# Altium integrated library TI Interface 8-Bit Line Transceiver.IntLib: 997 symbols (part 1 of 21)
Pins are listed as number, name and electrical type; pins without a type are passive.

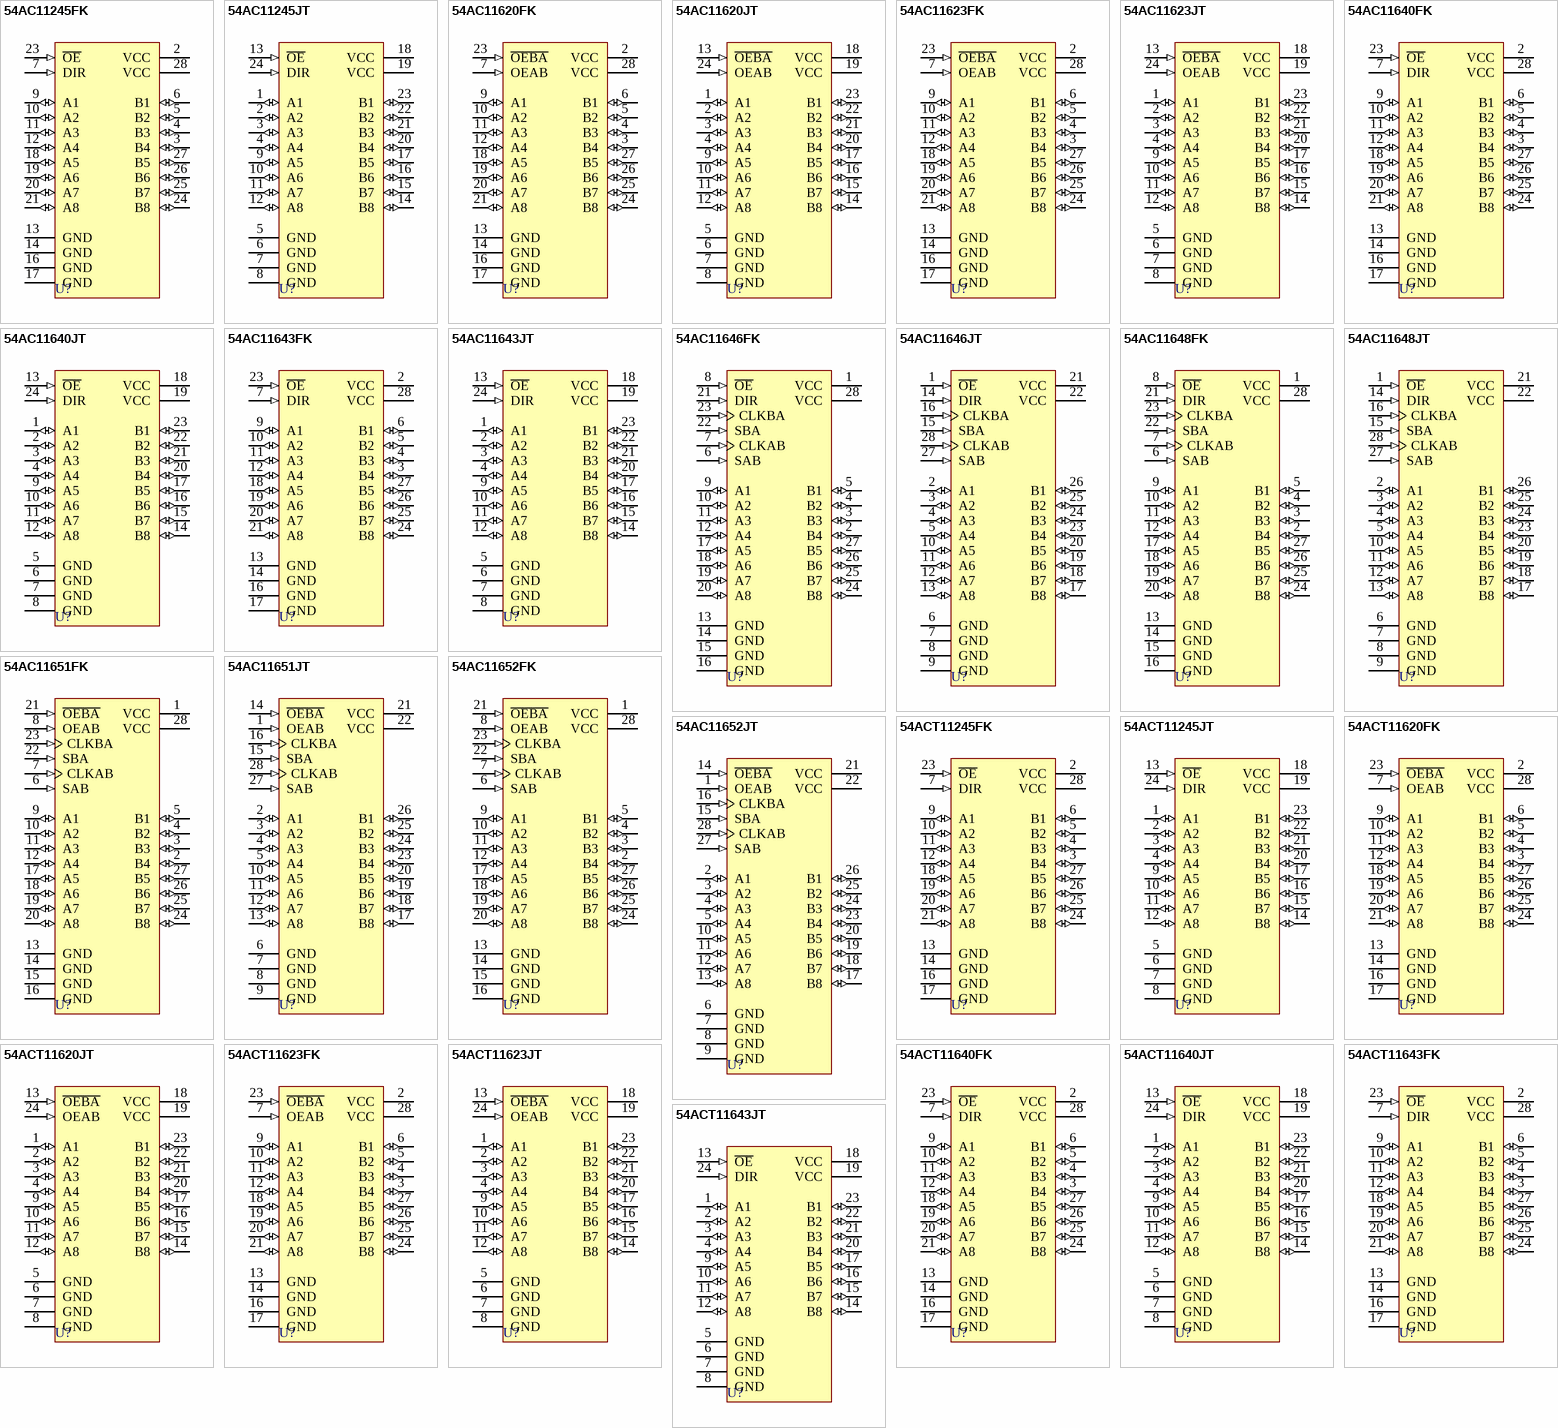
[diagram p0: symbols 54AC11245FK to 54ACT11643JT]

## 54AC11245FK
designator U?
Octal Bus Transceiver with 3-State Outputs; Note: Pins 1, 8, 15 and 22 are not connected; ComponentAvailability: Obsolete; Published: 8-Jun-2000; LatestRevisionDate: 17-Jul-2002; LatestRevisionNote: Re-released for DXP Platform.; DatasheetVersion: Mar-1990; PackageVersion: 1998; PackageReference: FK028D; Publisher: Altium Limited; PackageDescription: Leadless Chip Carrier; 28 Terminals; Body 11.4 x 11.4 mm; ComponentLink1Description: Manufacturer Link; ComponentLink1URL: http://www.ti.com/; ComponentLink2Description: Discontinuation Notice; ComponentLink2URL: http://focus.ti.com/pdfs/mltry/obsolete.pdf
footprint FK028D (Leadless Chip Carrier; 28 Terminals; Body 11.4 x 11.4 mm)
signal-integrity model 54AC11245FK
pins: 2 VCC (power), 3 B4 (io), 4 B3 (io), 5 B2 (io), 6 B1 (io), 7 DIR (in), 9 A1 (io), 10 A2 (io), 11 A3 (io), 12 A4 (io), 13 GND (power), 14 GND (power), 16 GND (power), 17 GND (power), 18 A5 (io), 19 A6 (io), 20 A7 (io), 21 A8 (io), 23 ~{OE} (in), 24 B8 (io), 25 B7 (io), 26 B6 (io), 27 B5 (io), 28 VCC (power)

## 54AC11245JT
designator U?
Octal Bus Transceiver with 3-State Outputs; ComponentAvailability: Obsolete; Published: 8-Jun-2000; LatestRevisionDate: 04-Mar-2005; LatestRevisionNote: Stylized 3D Model Added.; DatasheetVersion: Mar-1990; PackageVersion: Jan-1997; PackageReference: JT024D; Publisher: Altium Limited; PackageDescription: DIP; 24 Leads; Row Spacing 7.62 mm; Pitch 2.54 mm; Code_JEDEC: MS-001-AF; ComponentLink1Description: Manufacturer Link; ComponentLink1URL: http://www.ti.com/; ComponentLink2Description: Discontinuation Notice; ComponentLink2URL: http://focus.ti.com/pdfs/mltry/obsolete.pdf
footprint JT024D (DIP; 24 Leads; Row Spacing 7.62 mm; Pitch 2.54 mm)
3D model JT024 (DIP; 24 Leads; Row Spacing 7.62 mm; Pitch 2.54 mm)
signal-integrity model 54AC11245JT
pins: 1 A1 (io), 2 A2 (io), 3 A3 (io), 4 A4 (io), 5 GND (power), 6 GND (power), 7 GND (power), 8 GND (power), 9 A5 (io), 10 A6 (io), 11 A7 (io), 12 A8 (io), 13 ~{OE} (in), 14 B8 (io), 15 B7 (io), 16 B6 (io), 17 B5 (io), 18 VCC (power), 19 VCC (power), 20 B4 (io), 21 B3 (io), 22 B2 (io), 23 B1 (io), 24 DIR (in)

## 54AC11620FK
designator U?
Octal Bus Transceiver with 3-State Outputs; Note: Pins 1, 8, 15 and 22 are not connected; Published: 8-Jun-2000; LatestRevisionDate: 17-Jul-2002; LatestRevisionNote: Re-released for DXP Platform.; DatasheetVersion: Mar-1990; PackageVersion: 1998; PackageReference: FK028D; Publisher: Altium Limited; PackageDescription: Leadless Chip Carrier; 28 Terminals; Body 11.4 x 11.4 mm; ComponentLink1Description: Manufacturer Link; ComponentLink1URL: http://www.ti.com/
footprint FK028D (Leadless Chip Carrier; 28 Terminals; Body 11.4 x 11.4 mm)
signal-integrity model 54AC11620FK
pins: 2 VCC (power), 3 B4 (io), 4 B3 (io), 5 B2 (io), 6 B1 (io), 7 OEAB (in), 9 A1 (io), 10 A2 (io), 11 A3 (io), 12 A4 (io), 13 GND (power), 14 GND (power), 16 GND (power), 17 GND (power), 18 A5 (io), 19 A6 (io), 20 A7 (io), 21 A8 (io), 23 ~{OEBA} (in), 24 B8 (io), 25 B7 (io), 26 B6 (io), 27 B5 (io), 28 VCC (power)

## 54AC11620JT
designator U?
Octal Bus Transceiver with 3-State Outputs; Published: 8-Jun-2000; LatestRevisionDate: 04-Mar-2005; LatestRevisionNote: Stylized 3D Model Added.; DatasheetVersion: Mar-1990; PackageVersion: Jan-1997; PackageReference: JT024D; Publisher: Altium Limited; PackageDescription: DIP; 24 Leads; Row Spacing 7.62 mm; Pitch 2.54 mm; Code_JEDEC: MS-001-AF; ComponentLink1Description: Manufacturer Link; ComponentLink1URL: http://www.ti.com/
footprint JT024D (DIP; 24 Leads; Row Spacing 7.62 mm; Pitch 2.54 mm)
3D model JT024 (DIP; 24 Leads; Row Spacing 7.62 mm; Pitch 2.54 mm)
signal-integrity model 54AC11620JT
pins: 1 A1 (io), 2 A2 (io), 3 A3 (io), 4 A4 (io), 5 GND (power), 6 GND (power), 7 GND (power), 8 GND (power), 9 A5 (io), 10 A6 (io), 11 A7 (io), 12 A8 (io), 13 ~{OEBA} (in), 14 B8 (io), 15 B7 (io), 16 B6 (io), 17 B5 (io), 18 VCC (power), 19 VCC (power), 20 B4 (io), 21 B3 (io), 22 B2 (io), 23 B1 (io), 24 OEAB (in)

## 54AC11623FK
designator U?
Octal Bus Transceiver with 3-State Outputs; Note: Pins 1, 8, 15 and 22 are not connected; Published: 8-Jun-2000; LatestRevisionDate: 17-Jul-2002; LatestRevisionNote: Re-released for DXP Platform.; DatasheetVersion: Mar-1990; PackageVersion: 1998; PackageReference: FK028D; Publisher: Altium Limited; PackageDescription: Leadless Chip Carrier; 28 Terminals; Body 11.4 x 11.4 mm; ComponentLink1Description: Manufacturer Link; ComponentLink1URL: http://www.ti.com/
footprint FK028D (Leadless Chip Carrier; 28 Terminals; Body 11.4 x 11.4 mm)
signal-integrity model 54AC11623FK
pins: 2 VCC (power), 3 B4 (io), 4 B3 (io), 5 B2 (io), 6 B1 (io), 7 OEAB (in), 9 A1 (io), 10 A2 (io), 11 A3 (io), 12 A4 (io), 13 GND (power), 14 GND (power), 16 GND (power), 17 GND (power), 18 A5 (io), 19 A6 (io), 20 A7 (io), 21 A8 (io), 23 ~{OEBA} (in), 24 B8 (io), 25 B7 (io), 26 B6 (io), 27 B5 (io), 28 VCC (power)

## 54AC11623JT
designator U?
Octal Bus Transceiver with 3-State Outputs; Published: 8-Jun-2000; LatestRevisionDate: 04-Mar-2005; LatestRevisionNote: Stylized 3D Model Added.; DatasheetVersion: Mar-1990; PackageVersion: Jan-1997; PackageReference: JT024D; Publisher: Altium Limited; PackageDescription: DIP; 24 Leads; Row Spacing 7.62 mm; Pitch 2.54 mm; Code_JEDEC: MS-001-AF; ComponentLink1Description: Manufacturer Link; ComponentLink1URL: http://www.ti.com/
footprint JT024D (DIP; 24 Leads; Row Spacing 7.62 mm; Pitch 2.54 mm)
3D model JT024 (DIP; 24 Leads; Row Spacing 7.62 mm; Pitch 2.54 mm)
signal-integrity model 54AC11623JT
pins: 1 A1 (io), 2 A2 (io), 3 A3 (io), 4 A4 (io), 5 GND (power), 6 GND (power), 7 GND (power), 8 GND (power), 9 A5 (io), 10 A6 (io), 11 A7 (io), 12 A8 (io), 13 ~{OEBA} (in), 14 B8 (io), 15 B7 (io), 16 B6 (io), 17 B5 (io), 18 VCC (power), 19 VCC (power), 20 B4 (io), 21 B3 (io), 22 B2 (io), 23 B1 (io), 24 OEAB (in)

## 54AC11640FK
designator U?
Octal Bus Transceiver with 3-State Outputs; Note: Pins 1, 8, 15 and 22 are not connected; Published: 8-Jun-2000; LatestRevisionDate: 17-Jul-2002; LatestRevisionNote: Re-released for DXP Platform.; DatasheetVersion: Mar-1990; PackageVersion: 1998; PackageReference: FK028D; Publisher: Altium Limited; PackageDescription: Leadless Chip Carrier; 28 Terminals; Body 11.4 x 11.4 mm; ComponentLink1Description: Manufacturer Link; ComponentLink1URL: http://www.ti.com/
footprint FK028D (Leadless Chip Carrier; 28 Terminals; Body 11.4 x 11.4 mm)
signal-integrity model 54AC11640FK
pins: 2 VCC (power), 3 B4 (io), 4 B3 (io), 5 B2 (io), 6 B1 (io), 7 DIR (in), 9 A1 (io), 10 A2 (io), 11 A3 (io), 12 A4 (io), 13 GND (power), 14 GND (power), 16 GND (power), 17 GND (power), 18 A5 (io), 19 A6 (io), 20 A7 (io), 21 A8 (io), 23 ~{OE} (in), 24 B8 (io), 25 B7 (io), 26 B6 (io), 27 B5 (io), 28 VCC (power)

## 54AC11640JT
designator U?
Octal Bus Transceiver with 3-State Outputs; Published: 8-Jun-2000; LatestRevisionDate: 04-Mar-2005; LatestRevisionNote: Stylized 3D Model Added.; DatasheetVersion: Mar-1990; PackageVersion: Jan-1997; PackageReference: JT024D; Publisher: Altium Limited; PackageDescription: DIP; 24 Leads; Row Spacing 7.62 mm; Pitch 2.54 mm; Code_JEDEC: MS-001-AF; ComponentLink1Description: Manufacturer Link; ComponentLink1URL: http://www.ti.com/
footprint JT024D (DIP; 24 Leads; Row Spacing 7.62 mm; Pitch 2.54 mm)
3D model JT024 (DIP; 24 Leads; Row Spacing 7.62 mm; Pitch 2.54 mm)
signal-integrity model 54AC11640JT
pins: 1 A1 (io), 2 A2 (io), 3 A3 (io), 4 A4 (io), 5 GND (power), 6 GND (power), 7 GND (power), 8 GND (power), 9 A5 (io), 10 A6 (io), 11 A7 (io), 12 A8 (io), 13 ~{OE} (in), 14 B8 (io), 15 B7 (io), 16 B6 (io), 17 B5 (io), 18 VCC (power), 19 VCC (power), 20 B4 (io), 21 B3 (io), 22 B2 (io), 23 B1 (io), 24 DIR (in)

## 54AC11643FK
designator U?
Octal Bus Transceiver with 3-State Outputs; Note: Pins 1, 8, 15 and 22 are not connected; Published: 8-Jun-2000; LatestRevisionDate: 17-Jul-2002; LatestRevisionNote: Re-released for DXP Platform.; DatasheetVersion: Mar-1990; PackageVersion: 1998; PackageReference: FK028D; Publisher: Altium Limited; PackageDescription: Leadless Chip Carrier; 28 Terminals; Body 11.4 x 11.4 mm; ComponentLink1Description: Manufacturer Link; ComponentLink1URL: http://www.ti.com/
footprint FK028D (Leadless Chip Carrier; 28 Terminals; Body 11.4 x 11.4 mm)
signal-integrity model 54AC11643FK
pins: 2 VCC (power), 3 B4 (io), 4 B3 (io), 5 B2 (io), 6 B1 (io), 7 DIR (in), 9 A1 (io), 10 A2 (io), 11 A3 (io), 12 A4 (io), 13 GND (power), 14 GND (power), 16 GND (power), 17 GND (power), 18 A5 (io), 19 A6 (io), 20 A7 (io), 21 A8 (io), 23 ~{OE} (in), 24 B8 (io), 25 B7 (io), 26 B6 (io), 27 B5 (io), 28 VCC (power)

## 54AC11643JT
designator U?
Octal Bus Transceiver with 3-State Outputs; Published: 8-Jun-2000; LatestRevisionDate: 04-Mar-2005; LatestRevisionNote: Stylized 3D Model Added.; DatasheetVersion: Mar-1990; PackageVersion: Jan-1997; PackageReference: JT024D; Publisher: Altium Limited; PackageDescription: DIP; 24 Leads; Row Spacing 7.62 mm; Pitch 2.54 mm; Code_JEDEC: MS-001-AF; ComponentLink1Description: Manufacturer Link; ComponentLink1URL: http://www.ti.com/
footprint JT024D (DIP; 24 Leads; Row Spacing 7.62 mm; Pitch 2.54 mm)
3D model JT024 (DIP; 24 Leads; Row Spacing 7.62 mm; Pitch 2.54 mm)
signal-integrity model 54AC11643JT
pins: 1 A1 (io), 2 A2 (io), 3 A3 (io), 4 A4 (io), 5 GND (power), 6 GND (power), 7 GND (power), 8 GND (power), 9 A5 (io), 10 A6 (io), 11 A7 (io), 12 A8 (io), 13 ~{OE} (in), 14 B8 (io), 15 B7 (io), 16 B6 (io), 17 B5 (io), 18 VCC (power), 19 VCC (power), 20 B4 (io), 21 B3 (io), 22 B2 (io), 23 B1 (io), 24 DIR (in)

## 54AC11646FK
designator U?
Octal Bus Transceiver and Register with 3-State Outputs; Published: 8-Jun-2000; LatestRevisionDate: 17-Jul-2002; LatestRevisionNote: Re-released for DXP Platform.; DatasheetVersion: Mar-1990; PackageVersion: 1998; PackageReference: FK028D; Publisher: Altium Limited; PackageDescription: Leadless Chip Carrier; 28 Terminals; Body 11.4 x 11.4 mm; ComponentLink1Description: Manufacturer Link; ComponentLink1URL: http://www.ti.com/
footprint FK028D (Leadless Chip Carrier; 28 Terminals; Body 11.4 x 11.4 mm)
signal-integrity model 54AC11646FK
pins: 1 VCC (power), 2 B4 (io), 3 B3 (io), 4 B2 (io), 5 B1 (io), 6 SAB (in), 7 CLKAB (in), 8 ~{OE} (in), 9 A1 (io), 10 A2 (io), 11 A3 (io), 12 A4 (io), 13 GND (power), 14 GND (power), 15 GND (power), 16 GND (power), 17 A5 (io), 18 A6 (io), 19 A7 (io), 20 A8 (io), 21 DIR (in), 22 SBA (in), 23 CLKBA (in), 24 B8 (io), 25 B7 (io), 26 B6 (io), 27 B5 (io), 28 VCC (power)

## 54AC11646JT
designator U?
Octal Bus Transceiver and Register with 3-State Outputs; Published: 8-Jun-2000; LatestRevisionDate: 04-Mar-2005; LatestRevisionNote: Stylized 3D Model Added.; DatasheetVersion: Mar-1990; PackageVersion: Jan-1997; PackageReference: JT028D; Publisher: Altium Limited; PackageDescription: DIP; 28 Leads; Row Spacing 7.62 mm; Pitch 2.54 mm; ComponentLink1Description: Manufacturer Link; ComponentLink1URL: http://www.ti.com/
footprint JT028D (DIP; 28 Leads; Row Spacing 7.62 mm; Pitch 2.54 mm)
3D model JT028 (DIP; 28 Leads; Row Spacing 7.62 mm; Pitch 2.54 mm)
signal-integrity model 54AC11646JT
pins: 1 ~{OE} (in), 2 A1 (io), 3 A2 (io), 4 A3 (io), 5 A4 (io), 6 GND (power), 7 GND (power), 8 GND (power), 9 GND (power), 10 A5 (io), 11 A6 (io), 12 A7 (io), 13 A8 (io), 14 DIR (in), 15 SBA (in), 16 CLKBA (in), 17 B8 (io), 18 B7 (io), 19 B6 (io), 20 B5 (io), 21 VCC (power), 22 VCC (power), 23 B4 (io), 24 B3 (io), 25 B2 (io), 26 B1 (io), 27 SAB (in), 28 CLKAB (in)

## 54AC11648FK
designator U?
Octal Bus Transceiver and Register with 3-State Outputs; Published: 8-Jun-2000; LatestRevisionDate: 17-Jul-2002; LatestRevisionNote: Re-released for DXP Platform.; DatasheetVersion: Mar-1990; PackageVersion: 1998; PackageReference: FK028D; Publisher: Altium Limited; PackageDescription: Leadless Chip Carrier; 28 Terminals; Body 11.4 x 11.4 mm; ComponentLink1Description: Manufacturer Link; ComponentLink1URL: http://www.ti.com/
footprint FK028D (Leadless Chip Carrier; 28 Terminals; Body 11.4 x 11.4 mm)
signal-integrity model 54AC11648FK
pins: 1 VCC (power), 2 B4 (io), 3 B3 (io), 4 B2 (io), 5 B1 (io), 6 SAB (in), 7 CLKAB (in), 8 ~{OE} (in), 9 A1 (io), 10 A2 (io), 11 A3 (io), 12 A4 (io), 13 GND (power), 14 GND (power), 15 GND (power), 16 GND (power), 17 A5 (io), 18 A6 (io), 19 A7 (io), 20 A8 (io), 21 DIR (in), 22 SBA (in), 23 CLKBA (in), 24 B8 (io), 25 B7 (io), 26 B6 (io), 27 B5 (io), 28 VCC (power)

## 54AC11648JT
designator U?
Octal Bus Transceiver and Register with 3-State Outputs; Published: 8-Jun-2000; LatestRevisionDate: 04-Mar-2005; LatestRevisionNote: Stylized 3D Model Added.; DatasheetVersion: Mar-1990; PackageVersion: Jan-1997; PackageReference: JT028D; Publisher: Altium Limited; PackageDescription: DIP; 28 Leads; Row Spacing 7.62 mm; Pitch 2.54 mm; ComponentLink1Description: Manufacturer Link; ComponentLink1URL: http://www.ti.com/
footprint JT028D (DIP; 28 Leads; Row Spacing 7.62 mm; Pitch 2.54 mm)
3D model JT028 (DIP; 28 Leads; Row Spacing 7.62 mm; Pitch 2.54 mm)
signal-integrity model 54AC11648JT
pins: 1 ~{OE} (in), 2 A1 (io), 3 A2 (io), 4 A3 (io), 5 A4 (io), 6 GND (power), 7 GND (power), 8 GND (power), 9 GND (power), 10 A5 (io), 11 A6 (io), 12 A7 (io), 13 A8 (io), 14 DIR (in), 15 SBA (in), 16 CLKBA (in), 17 B8 (io), 18 B7 (io), 19 B6 (io), 20 B5 (io), 21 VCC (power), 22 VCC (power), 23 B4 (io), 24 B3 (io), 25 B2 (io), 26 B1 (io), 27 SAB (in), 28 CLKAB (in)

## 54AC11651FK
designator U?
Octal Bus Transceiver and Register; Published: 8-Jun-2000; LatestRevisionDate: 17-Jul-2002; LatestRevisionNote: Re-released for DXP Platform.; DatasheetVersion: Mar-1990; PackageVersion: 1998; PackageReference: FK028D; Publisher: Altium Limited; PackageDescription: Leadless Chip Carrier; 28 Terminals; Body 11.4 x 11.4 mm; ComponentLink1Description: Manufacturer Link; ComponentLink1URL: http://www.ti.com/
footprint FK028D (Leadless Chip Carrier; 28 Terminals; Body 11.4 x 11.4 mm)
signal-integrity model 54AC11651FK
pins: 1 VCC (power), 2 B4 (io), 3 B3 (io), 4 B2 (io), 5 B1 (io), 6 SAB (in), 7 CLKAB (in), 8 OEAB (in), 9 A1 (io), 10 A2 (io), 11 A3 (io), 12 A4 (io), 13 GND (power), 14 GND (power), 15 GND (power), 16 GND (power), 17 A5 (io), 18 A6 (io), 19 A7 (io), 20 A8 (io), 21 ~{OEBA} (in), 22 SBA (in), 23 CLKBA (in), 24 B8 (io), 25 B7 (io), 26 B6 (io), 27 B5 (io), 28 VCC (power)

## 54AC11651JT
designator U?
Octal Bus Transceiver and Register; Published: 8-Jun-2000; LatestRevisionDate: 04-Mar-2005; LatestRevisionNote: Stylized 3D Model Added.; DatasheetVersion: Mar-1990; PackageVersion: Jan-1997; PackageReference: JT028D; Publisher: Altium Limited; PackageDescription: DIP; 28 Leads; Row Spacing 7.62 mm; Pitch 2.54 mm; ComponentLink1Description: Manufacturer Link; ComponentLink1URL: http://www.ti.com/
footprint JT028D (DIP; 28 Leads; Row Spacing 7.62 mm; Pitch 2.54 mm)
3D model JT028 (DIP; 28 Leads; Row Spacing 7.62 mm; Pitch 2.54 mm)
signal-integrity model 54AC11651JT
pins: 1 OEAB (in), 2 A1 (io), 3 A2 (io), 4 A3 (io), 5 A4 (io), 6 GND (power), 7 GND (power), 8 GND (power), 9 GND (power), 10 A5 (io), 11 A6 (io), 12 A7 (io), 13 A8 (io), 14 ~{OEBA} (in), 15 SBA (in), 16 CLKBA (in), 17 B8 (io), 18 B7 (io), 19 B6 (io), 20 B5 (io), 21 VCC (power), 22 VCC (power), 23 B4 (io), 24 B3 (io), 25 B2 (io), 26 B1 (io), 27 SAB (in), 28 CLKAB (in)

## 54AC11652FK
designator U?
Octal Bus Transceiver and Register with 3-State Outputs; Published: 8-Jun-2000; LatestRevisionDate: 17-Jul-2002; LatestRevisionNote: Re-released for DXP Platform.; DatasheetVersion: Dec-1989; PackageVersion: 1998; PackageReference: FK028D; Publisher: Altium Limited; PackageDescription: Leadless Chip Carrier; 28 Terminals; Body 11.4 x 11.4 mm; ComponentLink1Description: Manufacturer Link; ComponentLink1URL: http://www.ti.com/
footprint FK028D (Leadless Chip Carrier; 28 Terminals; Body 11.4 x 11.4 mm)
signal-integrity model 54AC11652FK
pins: 1 VCC (power), 2 B4 (io), 3 B3 (io), 4 B2 (io), 5 B1 (io), 6 SAB (in), 7 CLKAB (in), 8 OEAB (in), 9 A1 (io), 10 A2 (io), 11 A3 (io), 12 A4 (io), 13 GND (power), 14 GND (power), 15 GND (power), 16 GND (power), 17 A5 (io), 18 A6 (io), 19 A7 (io), 20 A8 (io), 21 ~{OEBA} (in), 22 SBA (in), 23 CLKBA (in), 24 B8 (io), 25 B7 (io), 26 B6 (io), 27 B5 (io), 28 VCC (power)

## 54AC11652JT
designator U?
Octal Bus Transceiver and Register with 3-State Outputs; Published: 8-Jun-2000; LatestRevisionDate: 04-Mar-2005; LatestRevisionNote: Stylized 3D Model Added.; DatasheetVersion: Dec-1989; PackageVersion: Jan-1997; PackageReference: JT028D; Publisher: Altium Limited; PackageDescription: DIP; 28 Leads; Row Spacing 7.62 mm; Pitch 2.54 mm; ComponentLink1Description: Manufacturer Link; ComponentLink1URL: http://www.ti.com/
footprint JT028D (DIP; 28 Leads; Row Spacing 7.62 mm; Pitch 2.54 mm)
3D model JT028 (DIP; 28 Leads; Row Spacing 7.62 mm; Pitch 2.54 mm)
signal-integrity model 54AC11652JT
pins: 1 OEAB (in), 2 A1 (io), 3 A2 (io), 4 A3 (io), 5 A4 (io), 6 GND (power), 7 GND (power), 8 GND (power), 9 GND (power), 10 A5 (io), 11 A6 (io), 12 A7 (io), 13 A8 (io), 14 ~{OEBA} (in), 15 SBA (in), 16 CLKBA (in), 17 B8 (io), 18 B7 (io), 19 B6 (io), 20 B5 (io), 21 VCC (power), 22 VCC (power), 23 B4 (io), 24 B3 (io), 25 B2 (io), 26 B1 (io), 27 SAB (in), 28 CLKAB (in)

## 54ACT11245FK
designator U?
Octal Bus Transceiver with 3-State Outputs; Note: Pins 1, 8, 15 and 22 are not connected; ComponentAvailability: Obsolete; Published: 8-Jun-2000; LatestRevisionDate: 17-Jul-2002; LatestRevisionNote: Re-released for DXP Platform.; DatasheetVersion: Mar-1990; PackageVersion: 1998; PackageReference: FK028D; Publisher: Altium Limited; PackageDescription: Leadless Chip Carrier; 28 Terminals; Body 11.4 x 11.4 mm; ComponentLink1Description: Manufacturer Link; ComponentLink1URL: http://www.ti.com/; ComponentLink2Description: Discontinuation Notice; ComponentLink2URL: http://focus.ti.com/pdfs/mltry/obsolete.pdf
footprint FK028D (Leadless Chip Carrier; 28 Terminals; Body 11.4 x 11.4 mm)
signal-integrity model 54ACT11245FK
pins: 2 VCC (power), 3 B4 (io), 4 B3 (io), 5 B2 (io), 6 B1 (io), 7 DIR (in), 9 A1 (io), 10 A2 (io), 11 A3 (io), 12 A4 (io), 13 GND (power), 14 GND (power), 16 GND (power), 17 GND (power), 18 A5 (io), 19 A6 (io), 20 A7 (io), 21 A8 (io), 23 ~{OE} (in), 24 B8 (io), 25 B7 (io), 26 B6 (io), 27 B5 (io), 28 VCC (power)

## 54ACT11245JT
designator U?
Octal Bus Transceiver with 3-State Outputs; ComponentAvailability: Obsolete; Published: 8-Jun-2000; LatestRevisionDate: 04-Mar-2005; LatestRevisionNote: Stylized 3D Model Added.; DatasheetVersion: Mar-1990; PackageVersion: Jan-1997; PackageReference: JT024D; Publisher: Altium Limited; PackageDescription: DIP; 24 Leads; Row Spacing 7.62 mm; Pitch 2.54 mm; Code_JEDEC: MS-001-AF; ComponentLink1Description: Manufacturer Link; ComponentLink1URL: http://www.ti.com/; ComponentLink2Description: Discontinuation Notice; ComponentLink2URL: http://focus.ti.com/pdfs/mltry/obsolete.pdf
footprint JT024D (DIP; 24 Leads; Row Spacing 7.62 mm; Pitch 2.54 mm)
3D model JT024 (DIP; 24 Leads; Row Spacing 7.62 mm; Pitch 2.54 mm)
signal-integrity model 54ACT11245JT
pins: 1 A1 (io), 2 A2 (io), 3 A3 (io), 4 A4 (io), 5 GND (power), 6 GND (power), 7 GND (power), 8 GND (power), 9 A5 (io), 10 A6 (io), 11 A7 (io), 12 A8 (io), 13 ~{OE} (in), 14 B8 (io), 15 B7 (io), 16 B6 (io), 17 B5 (io), 18 VCC (power), 19 VCC (power), 20 B4 (io), 21 B3 (io), 22 B2 (io), 23 B1 (io), 24 DIR (in)

## 54ACT11620FK
designator U?
Octal Bus Transceiver with 3-State Outputs; Note: Pins 1, 8, 15 and 22 are not connected; Published: 8-Jun-2000; LatestRevisionDate: 17-Jul-2002; LatestRevisionNote: Re-released for DXP Platform.; DatasheetVersion: Mar-1990; PackageVersion: 1998; PackageReference: FK028D; Publisher: Altium Limited; PackageDescription: Leadless Chip Carrier; 28 Terminals; Body 11.4 x 11.4 mm; ComponentLink1Description: Manufacturer Link; ComponentLink1URL: http://www.ti.com/
footprint FK028D (Leadless Chip Carrier; 28 Terminals; Body 11.4 x 11.4 mm)
signal-integrity model 54ACT11620FK
pins: 2 VCC (power), 3 B4 (io), 4 B3 (io), 5 B2 (io), 6 B1 (io), 7 OEAB (in), 9 A1 (io), 10 A2 (io), 11 A3 (io), 12 A4 (io), 13 GND (power), 14 GND (power), 16 GND (power), 17 GND (power), 18 A5 (io), 19 A6 (io), 20 A7 (io), 21 A8 (io), 23 ~{OEBA} (in), 24 B8 (io), 25 B7 (io), 26 B6 (io), 27 B5 (io), 28 VCC (power)

## 54ACT11620JT
designator U?
Octal Bus Transceiver with 3-State Outputs; Published: 8-Jun-2000; LatestRevisionDate: 04-Mar-2005; LatestRevisionNote: Stylized 3D Model Added.; DatasheetVersion: Mar-1990; PackageVersion: Jan-1997; PackageReference: JT024D; Publisher: Altium Limited; PackageDescription: DIP; 24 Leads; Row Spacing 7.62 mm; Pitch 2.54 mm; Code_JEDEC: MS-001-AF; ComponentLink1Description: Manufacturer Link; ComponentLink1URL: http://www.ti.com/
footprint JT024D (DIP; 24 Leads; Row Spacing 7.62 mm; Pitch 2.54 mm)
3D model JT024 (DIP; 24 Leads; Row Spacing 7.62 mm; Pitch 2.54 mm)
signal-integrity model 54ACT11620JT
pins: 1 A1 (io), 2 A2 (io), 3 A3 (io), 4 A4 (io), 5 GND (power), 6 GND (power), 7 GND (power), 8 GND (power), 9 A5 (io), 10 A6 (io), 11 A7 (io), 12 A8 (io), 13 ~{OEBA} (in), 14 B8 (io), 15 B7 (io), 16 B6 (io), 17 B5 (io), 18 VCC (power), 19 VCC (power), 20 B4 (io), 21 B3 (io), 22 B2 (io), 23 B1 (io), 24 OEAB (in)

## 54ACT11623FK
designator U?
Octal Bus Transceiver with 3-State Outputs; Note: Pins 1, 8, 15 and 22 are not connected; Published: 8-Jun-2000; LatestRevisionDate: 17-Jul-2002; LatestRevisionNote: Re-released for DXP Platform.; DatasheetVersion: Mar-1990; PackageVersion: 1998; PackageReference: FK028D; Publisher: Altium Limited; PackageDescription: Leadless Chip Carrier; 28 Terminals; Body 11.4 x 11.4 mm; ComponentLink1Description: Manufacturer Link; ComponentLink1URL: http://www.ti.com/
footprint FK028D (Leadless Chip Carrier; 28 Terminals; Body 11.4 x 11.4 mm)
signal-integrity model 54ACT11623FK
pins: 2 VCC (power), 3 B4 (io), 4 B3 (io), 5 B2 (io), 6 B1 (io), 7 OEAB (in), 9 A1 (io), 10 A2 (io), 11 A3 (io), 12 A4 (io), 13 GND (power), 14 GND (power), 16 GND (power), 17 GND (power), 18 A5 (io), 19 A6 (io), 20 A7 (io), 21 A8 (io), 23 ~{OEBA} (in), 24 B8 (io), 25 B7 (io), 26 B6 (io), 27 B5 (io), 28 VCC (power)

## 54ACT11623JT
designator U?
Octal Bus Transceiver with 3-State Outputs; Published: 8-Jun-2000; LatestRevisionDate: 04-Mar-2005; LatestRevisionNote: Stylized 3D Model Added.; DatasheetVersion: Mar-1990; PackageVersion: Jan-1997; PackageReference: JT024D; Publisher: Altium Limited; PackageDescription: DIP; 24 Leads; Row Spacing 7.62 mm; Pitch 2.54 mm; Code_JEDEC: MS-001-AF; ComponentLink1Description: Manufacturer Link; ComponentLink1URL: http://www.ti.com/
footprint JT024D (DIP; 24 Leads; Row Spacing 7.62 mm; Pitch 2.54 mm)
3D model JT024 (DIP; 24 Leads; Row Spacing 7.62 mm; Pitch 2.54 mm)
signal-integrity model 54ACT11623JT
pins: 1 A1 (io), 2 A2 (io), 3 A3 (io), 4 A4 (io), 5 GND (power), 6 GND (power), 7 GND (power), 8 GND (power), 9 A5 (io), 10 A6 (io), 11 A7 (io), 12 A8 (io), 13 ~{OEBA} (in), 14 B8 (io), 15 B7 (io), 16 B6 (io), 17 B5 (io), 18 VCC (power), 19 VCC (power), 20 B4 (io), 21 B3 (io), 22 B2 (io), 23 B1 (io), 24 OEAB (in)

## 54ACT11640FK
designator U?
Octal Bus Transceiver with 3-State Outputs; Note: Pins 1, 8, 15 and 22 are not connected; Published: 8-Jun-2000; LatestRevisionDate: 17-Jul-2002; LatestRevisionNote: Re-released for DXP Platform.; DatasheetVersion: Apr-1993; PackageVersion: 1998; PackageReference: FK028; Publisher: Altium Limited; PackageDescription: Leadless Chip Carrier; 28 Terminals; Body 11.4 x 11.4 mm; ComponentLink1Description: Manufacturer Link; ComponentLink1URL: http://www.ti.com/; ComponentLink2Description: Datasheet; ComponentLink2URL: http://www-s.ti.com/sc/ds/74act11640.pdf
footprint FK028 (Leadless Chip Carrier; 28 Terminals; Body 11.4 x 11.4 mm)
signal-integrity model 54ACT11640FK
pins: 2 VCC (power), 3 B4 (io), 4 B3 (io), 5 B2 (io), 6 B1 (io), 7 DIR (in), 9 A1 (io), 10 A2 (io), 11 A3 (io), 12 A4 (io), 13 GND (power), 14 GND (power), 16 GND (power), 17 GND (power), 18 A5 (io), 19 A6 (io), 20 A7 (io), 21 A8 (io), 23 ~{OE} (in), 24 B8 (io), 25 B7 (io), 26 B6 (io), 27 B5 (io), 28 VCC (power)

## 54ACT11640JT
designator U?
Octal Bus Transceiver with 3-State Outputs; Published: 8-Jun-2000; LatestRevisionDate: 04-Mar-2005; LatestRevisionNote: Stylized 3D Model Added.; DatasheetVersion: Apr-1993; PackageVersion: Jan-1997; PackageReference: JT024; Publisher: Altium Limited; PackageDescription: DIP; 24 Leads; Row Spacing 7.62 mm; Pitch 2.54 mm; Code_JEDEC: MS-001-AF; ComponentLink1Description: Manufacturer Link; ComponentLink1URL: http://www.ti.com/; ComponentLink2Description: Datasheet; ComponentLink2URL: http://www-s.ti.com/sc/ds/74act11640.pdf
footprint JT024 (DIP; 24 Leads; Row Spacing 7.62 mm; Pitch 2.54 mm)
3D model JT024 (DIP; 24 Leads; Row Spacing 7.62 mm; Pitch 2.54 mm)
signal-integrity model 54ACT11640JT
pins: 1 A1 (io), 2 A2 (io), 3 A3 (io), 4 A4 (io), 5 GND (power), 6 GND (power), 7 GND (power), 8 GND (power), 9 A5 (io), 10 A6 (io), 11 A7 (io), 12 A8 (io), 13 ~{OE} (in), 14 B8 (io), 15 B7 (io), 16 B6 (io), 17 B5 (io), 18 VCC (power), 19 VCC (power), 20 B4 (io), 21 B3 (io), 22 B2 (io), 23 B1 (io), 24 DIR (in)

## 54ACT11643FK
designator U?
Octal Bus Transceiver with 3-State Outputs; Note: Pins 1, 8, 15 and 22 are not connected; Published: 8-Jun-2000; LatestRevisionDate: 17-Jul-2002; LatestRevisionNote: Re-released for DXP Platform.; DatasheetVersion: Mar-1990; PackageVersion: 1998; PackageReference: FK028D; Publisher: Altium Limited; PackageDescription: Leadless Chip Carrier; 28 Terminals; Body 11.4 x 11.4 mm; ComponentLink1Description: Manufacturer Link; ComponentLink1URL: http://www.ti.com/
footprint FK028D (Leadless Chip Carrier; 28 Terminals; Body 11.4 x 11.4 mm)
signal-integrity model 54ACT11643FK
pins: 2 VCC (power), 3 B4 (io), 4 B3 (io), 5 B2 (io), 6 B1 (io), 7 DIR (in), 9 A1 (io), 10 A2 (io), 11 A3 (io), 12 A4 (io), 13 GND (power), 14 GND (power), 16 GND (power), 17 GND (power), 18 A5 (io), 19 A6 (io), 20 A7 (io), 21 A8 (io), 23 ~{OE} (in), 24 B8 (io), 25 B7 (io), 26 B6 (io), 27 B5 (io), 28 VCC (power)

## 54ACT11643JT
designator U?
Octal Bus Transceiver with 3-State Outputs; Published: 8-Jun-2000; LatestRevisionDate: 04-Mar-2005; LatestRevisionNote: Stylized 3D Model Added.; DatasheetVersion: Mar-1990; PackageVersion: Jan-1997; PackageReference: JT024D; Publisher: Altium Limited; PackageDescription: DIP; 24 Leads; Row Spacing 7.62 mm; Pitch 2.54 mm; Code_JEDEC: MS-001-AF; ComponentLink1Description: Manufacturer Link; ComponentLink1URL: http://www.ti.com/
footprint JT024D (DIP; 24 Leads; Row Spacing 7.62 mm; Pitch 2.54 mm)
3D model JT024 (DIP; 24 Leads; Row Spacing 7.62 mm; Pitch 2.54 mm)
signal-integrity model 54ACT11643JT
pins: 1 A1 (io), 2 A2 (io), 3 A3 (io), 4 A4 (io), 5 GND (power), 6 GND (power), 7 GND (power), 8 GND (power), 9 A5 (io), 10 A6 (io), 11 A7 (io), 12 A8 (io), 13 ~{OE} (in), 14 B8 (io), 15 B7 (io), 16 B6 (io), 17 B5 (io), 18 VCC (power), 19 VCC (power), 20 B4 (io), 21 B3 (io), 22 B2 (io), 23 B1 (io), 24 DIR (in)

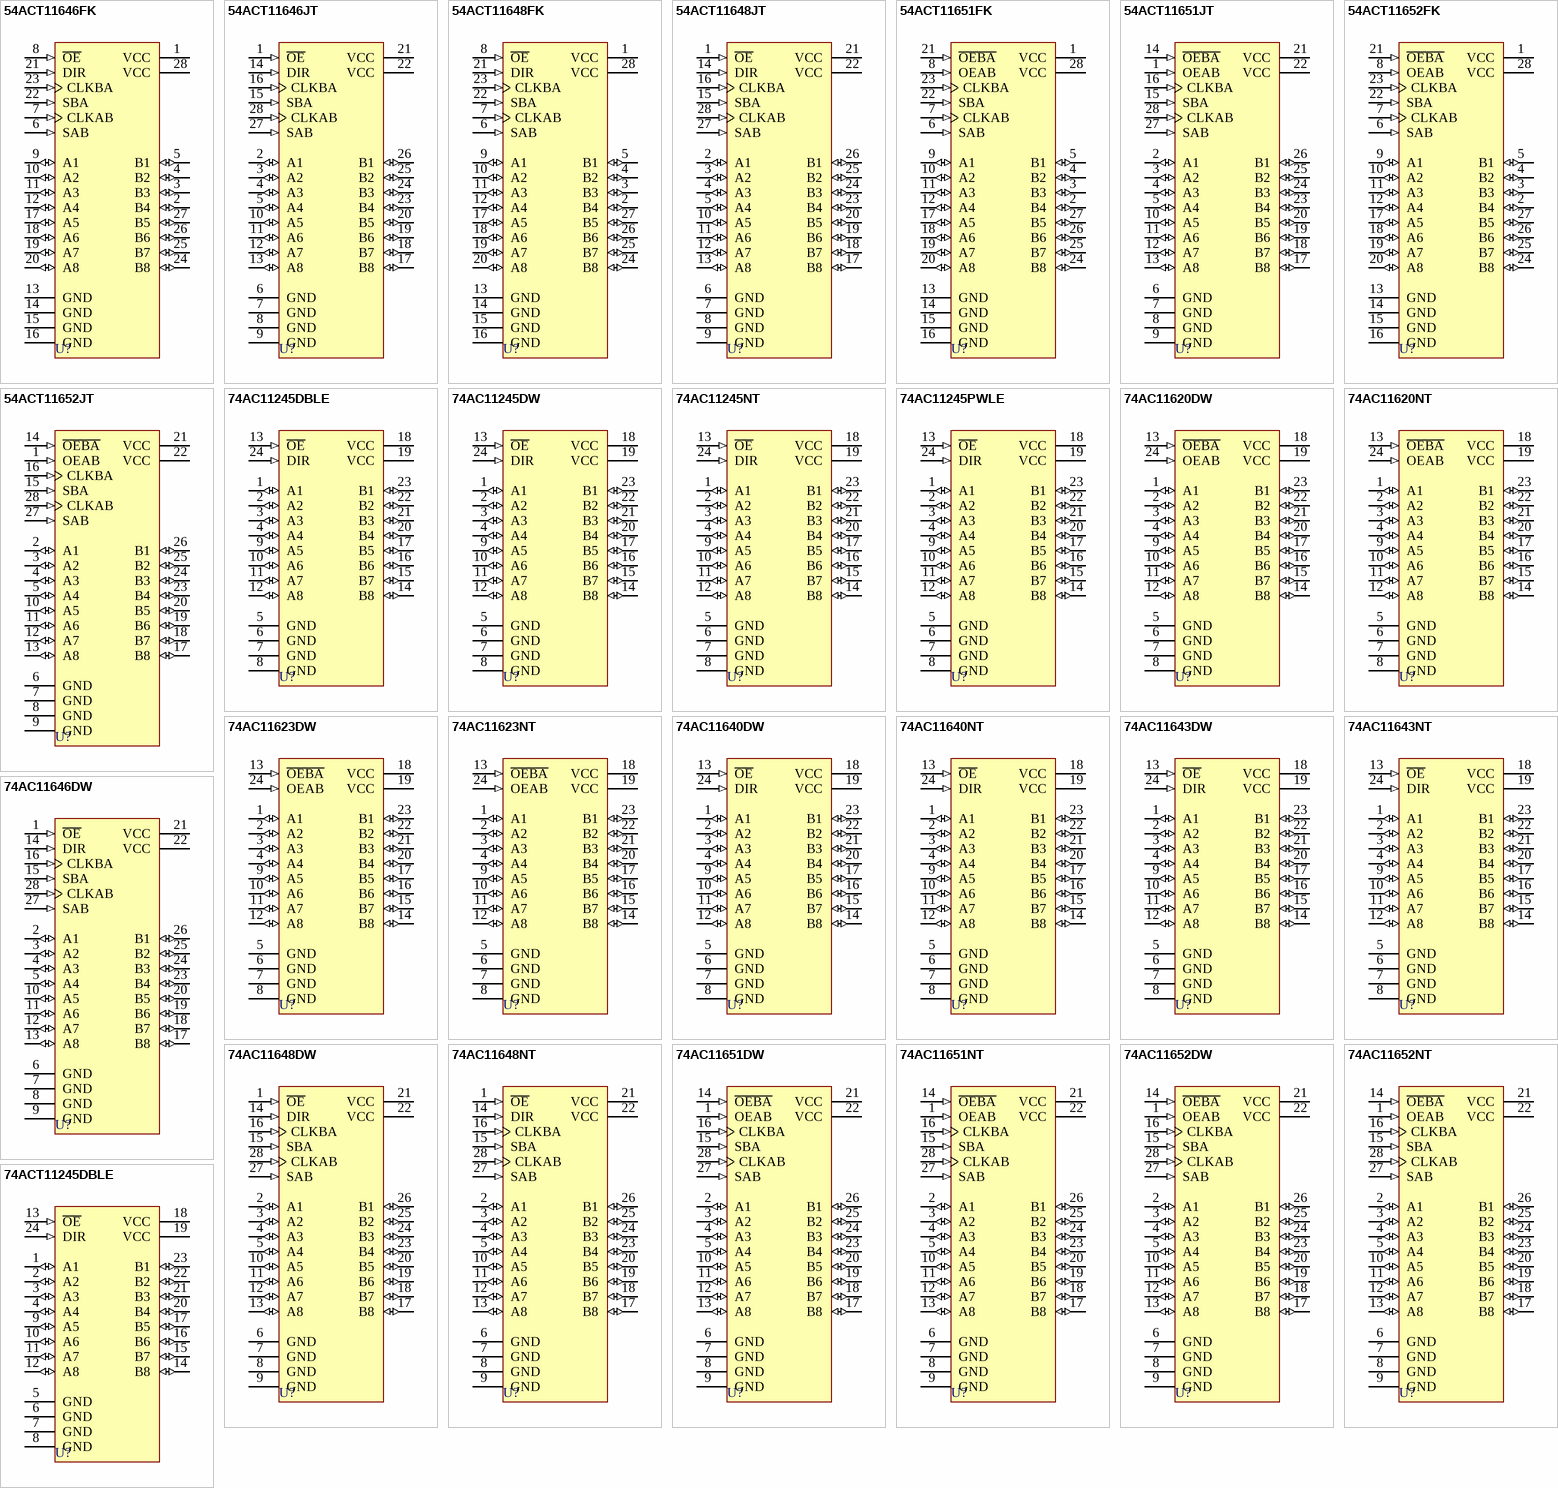
[diagram p1: symbols 54ACT11646FK to 74ACT11245DBLE]

## 54ACT11646FK
designator U?
Octal Bus Transceiver and Register with 3-State Outputs; Published: 8-Jun-2000; LatestRevisionDate: 17-Jul-2002; LatestRevisionNote: Re-released for DXP Platform.; DatasheetVersion: Mar-1990; PackageVersion: 1998; PackageReference: FK028D; Publisher: Altium Limited; PackageDescription: Leadless Chip Carrier; 28 Terminals; Body 11.4 x 11.4 mm; ComponentLink1Description: Manufacturer Link; ComponentLink1URL: http://www.ti.com/
footprint FK028D (Leadless Chip Carrier; 28 Terminals; Body 11.4 x 11.4 mm)
signal-integrity model 54ACT11646FK
pins: 1 VCC (power), 2 B4 (io), 3 B3 (io), 4 B2 (io), 5 B1 (io), 6 SAB (in), 7 CLKAB (in), 8 ~{OE} (in), 9 A1 (io), 10 A2 (io), 11 A3 (io), 12 A4 (io), 13 GND (power), 14 GND (power), 15 GND (power), 16 GND (power), 17 A5 (io), 18 A6 (io), 19 A7 (io), 20 A8 (io), 21 DIR (in), 22 SBA (in), 23 CLKBA (in), 24 B8 (io), 25 B7 (io), 26 B6 (io), 27 B5 (io), 28 VCC (power)

## 54ACT11646JT
designator U?
Octal Bus Transceiver and Register with 3-State Outputs; Published: 8-Jun-2000; LatestRevisionDate: 04-Mar-2005; LatestRevisionNote: Stylized 3D Model Added.; DatasheetVersion: Mar-1990; PackageVersion: Jan-1997; PackageReference: JT028D; Publisher: Altium Limited; PackageDescription: DIP; 28 Leads; Row Spacing 7.62 mm; Pitch 2.54 mm; ComponentLink1Description: Manufacturer Link; ComponentLink1URL: http://www.ti.com/
footprint JT028D (DIP; 28 Leads; Row Spacing 7.62 mm; Pitch 2.54 mm)
3D model JT028 (DIP; 28 Leads; Row Spacing 7.62 mm; Pitch 2.54 mm)
signal-integrity model 54ACT11646JT
pins: 1 ~{OE} (in), 2 A1 (io), 3 A2 (io), 4 A3 (io), 5 A4 (io), 6 GND (power), 7 GND (power), 8 GND (power), 9 GND (power), 10 A5 (io), 11 A6 (io), 12 A7 (io), 13 A8 (io), 14 DIR (in), 15 SBA (in), 16 CLKBA (in), 17 B8 (io), 18 B7 (io), 19 B6 (io), 20 B5 (io), 21 VCC (power), 22 VCC (power), 23 B4 (io), 24 B3 (io), 25 B2 (io), 26 B1 (io), 27 SAB (in), 28 CLKAB (in)

## 54ACT11648FK
designator U?
Octal Bus Transceiver and Register with 3-State Outputs; Published: 8-Jun-2000; LatestRevisionDate: 17-Jul-2002; LatestRevisionNote: Re-released for DXP Platform.; DatasheetVersion: Mar-1990; PackageVersion: 1998; PackageReference: FK028D; Publisher: Altium Limited; PackageDescription: Leadless Chip Carrier; 28 Terminals; Body 11.4 x 11.4 mm; ComponentLink1Description: Manufacturer Link; ComponentLink1URL: http://www.ti.com/
footprint FK028D (Leadless Chip Carrier; 28 Terminals; Body 11.4 x 11.4 mm)
signal-integrity model 54ACT11648FK
pins: 1 VCC (power), 2 B4 (io), 3 B3 (io), 4 B2 (io), 5 B1 (io), 6 SAB (in), 7 CLKAB (in), 8 ~{OE} (in), 9 A1 (io), 10 A2 (io), 11 A3 (io), 12 A4 (io), 13 GND (power), 14 GND (power), 15 GND (power), 16 GND (power), 17 A5 (io), 18 A6 (io), 19 A7 (io), 20 A8 (io), 21 DIR (in), 22 SBA (in), 23 CLKBA (in), 24 B8 (io), 25 B7 (io), 26 B6 (io), 27 B5 (io), 28 VCC (power)

## 54ACT11648JT
designator U?
Octal Bus Transceiver and Register with 3-State Outputs; Published: 8-Jun-2000; LatestRevisionDate: 04-Mar-2005; LatestRevisionNote: Stylized 3D Model Added.; DatasheetVersion: Mar-1990; PackageVersion: Jan-1997; PackageReference: JT028D; Publisher: Altium Limited; PackageDescription: DIP; 28 Leads; Row Spacing 7.62 mm; Pitch 2.54 mm; ComponentLink1Description: Manufacturer Link; ComponentLink1URL: http://www.ti.com/
footprint JT028D (DIP; 28 Leads; Row Spacing 7.62 mm; Pitch 2.54 mm)
3D model JT028 (DIP; 28 Leads; Row Spacing 7.62 mm; Pitch 2.54 mm)
signal-integrity model 54ACT11648JT
pins: 1 ~{OE} (in), 2 A1 (io), 3 A2 (io), 4 A3 (io), 5 A4 (io), 6 GND (power), 7 GND (power), 8 GND (power), 9 GND (power), 10 A5 (io), 11 A6 (io), 12 A7 (io), 13 A8 (io), 14 DIR (in), 15 SBA (in), 16 CLKBA (in), 17 B8 (io), 18 B7 (io), 19 B6 (io), 20 B5 (io), 21 VCC (power), 22 VCC (power), 23 B4 (io), 24 B3 (io), 25 B2 (io), 26 B1 (io), 27 SAB (in), 28 CLKAB (in)

## 54ACT11651FK
designator U?
Octal Bus Transceiver and Register; Published: 8-Jun-2000; LatestRevisionDate: 17-Jul-2002; LatestRevisionNote: Re-released for DXP Platform.; DatasheetVersion: Mar-1990; PackageVersion: 1998; PackageReference: FK028D; Publisher: Altium Limited; PackageDescription: Leadless Chip Carrier; 28 Terminals; Body 11.4 x 11.4 mm; ComponentLink1Description: Manufacturer Link; ComponentLink1URL: http://www.ti.com/
footprint FK028D (Leadless Chip Carrier; 28 Terminals; Body 11.4 x 11.4 mm)
signal-integrity model 54ACT11651FK
pins: 1 VCC (power), 2 B4 (io), 3 B3 (io), 4 B2 (io), 5 B1 (io), 6 SAB (in), 7 CLKAB (in), 8 OEAB (in), 9 A1 (io), 10 A2 (io), 11 A3 (io), 12 A4 (io), 13 GND (power), 14 GND (power), 15 GND (power), 16 GND (power), 17 A5 (io), 18 A6 (io), 19 A7 (io), 20 A8 (io), 21 ~{OEBA} (in), 22 SBA (in), 23 CLKBA (in), 24 B8 (io), 25 B7 (io), 26 B6 (io), 27 B5 (io), 28 VCC (power)

## 54ACT11651JT
designator U?
Octal Bus Transceiver and Register; Published: 8-Jun-2000; LatestRevisionDate: 04-Mar-2005; LatestRevisionNote: Stylized 3D Model Added.; DatasheetVersion: Mar-1990; PackageVersion: Jan-1997; PackageReference: JT028D; Publisher: Altium Limited; PackageDescription: DIP; 28 Leads; Row Spacing 7.62 mm; Pitch 2.54 mm; ComponentLink1Description: Manufacturer Link; ComponentLink1URL: http://www.ti.com/
footprint JT028D (DIP; 28 Leads; Row Spacing 7.62 mm; Pitch 2.54 mm)
3D model JT028 (DIP; 28 Leads; Row Spacing 7.62 mm; Pitch 2.54 mm)
signal-integrity model 54ACT11651JT
pins: 1 OEAB (in), 2 A1 (io), 3 A2 (io), 4 A3 (io), 5 A4 (io), 6 GND (power), 7 GND (power), 8 GND (power), 9 GND (power), 10 A5 (io), 11 A6 (io), 12 A7 (io), 13 A8 (io), 14 ~{OEBA} (in), 15 SBA (in), 16 CLKBA (in), 17 B8 (io), 18 B7 (io), 19 B6 (io), 20 B5 (io), 21 VCC (power), 22 VCC (power), 23 B4 (io), 24 B3 (io), 25 B2 (io), 26 B1 (io), 27 SAB (in), 28 CLKAB (in)

## 54ACT11652FK
designator U?
Octal Bus Transceiver and Register with 3-State Outputs; Published: 8-Jun-2000; LatestRevisionDate: 17-Jul-2002; LatestRevisionNote: Re-released for DXP Platform.; DatasheetVersion: Dec-1989; PackageVersion: 1998; PackageReference: FK028D; Publisher: Altium Limited; PackageDescription: Leadless Chip Carrier; 28 Terminals; Body 11.4 x 11.4 mm; ComponentLink1Description: Manufacturer Link; ComponentLink1URL: http://www.ti.com/
footprint FK028D (Leadless Chip Carrier; 28 Terminals; Body 11.4 x 11.4 mm)
signal-integrity model 54ACT11652FK
pins: 1 VCC (power), 2 B4 (io), 3 B3 (io), 4 B2 (io), 5 B1 (io), 6 SAB (in), 7 CLKAB (in), 8 OEAB (in), 9 A1 (io), 10 A2 (io), 11 A3 (io), 12 A4 (io), 13 GND (power), 14 GND (power), 15 GND (power), 16 GND (power), 17 A5 (io), 18 A6 (io), 19 A7 (io), 20 A8 (io), 21 ~{OEBA} (in), 22 SBA (in), 23 CLKBA (in), 24 B8 (io), 25 B7 (io), 26 B6 (io), 27 B5 (io), 28 VCC (power)

## 54ACT11652JT
designator U?
Octal Bus Transceiver and Register with 3-State Outputs; Published: 8-Jun-2000; LatestRevisionDate: 04-Mar-2005; LatestRevisionNote: Stylized 3D Model Added.; DatasheetVersion: Dec-1989; PackageVersion: Jan-1997; PackageReference: JT028D; Publisher: Altium Limited; PackageDescription: DIP; 28 Leads; Row Spacing 7.62 mm; Pitch 2.54 mm; ComponentLink1Description: Manufacturer Link; ComponentLink1URL: http://www.ti.com/
footprint JT028D (DIP; 28 Leads; Row Spacing 7.62 mm; Pitch 2.54 mm)
3D model JT028 (DIP; 28 Leads; Row Spacing 7.62 mm; Pitch 2.54 mm)
signal-integrity model 54ACT11652JT
pins: 1 OEAB (in), 2 A1 (io), 3 A2 (io), 4 A3 (io), 5 A4 (io), 6 GND (power), 7 GND (power), 8 GND (power), 9 GND (power), 10 A5 (io), 11 A6 (io), 12 A7 (io), 13 A8 (io), 14 ~{OEBA} (in), 15 SBA (in), 16 CLKBA (in), 17 B8 (io), 18 B7 (io), 19 B6 (io), 20 B5 (io), 21 VCC (power), 22 VCC (power), 23 B4 (io), 24 B3 (io), 25 B2 (io), 26 B1 (io), 27 SAB (in), 28 CLKAB (in)

## 74AC11245DBLE
designator U?
Octal Bus Transceiver with 3-State Outputs; ComponentAvailability: Obsolete; Published: 8-Jun-2000; LatestRevisionDate: 04-Mar-2005; LatestRevisionNote: Stylized 3D Model Added.; DatasheetVersion: Apr-1996; PackageVersion: May-1999; PackageReference: DB024; Publisher: Altium Limited; PackageDescription: SSOP, Plastic; 24 Leads; Body Width 5.3 mm; Pitch 0.65 mm; Code_JEDEC: MO-150-AG; ComponentLink1Description: Manufacturer Link; ComponentLink1URL: http://www.ti.com/; ComponentLink2Description: Datasheet; ComponentLink2URL: http://www-s.ti.com/sc/ds/74ac11245.pdf
footprint DB024 (SSOP, Plastic; 24 Leads; Body Width 5.3 mm; Pitch 0.65 mm)
3D model DB024 (SSOP, Plastic; 24 Leads; Body Width 5.3 mm; Pitch 0.65 mm)
signal-integrity model 74AC11245DBLE
pins: 1 A1 (io), 2 A2 (io), 3 A3 (io), 4 A4 (io), 5 GND (power), 6 GND (power), 7 GND (power), 8 GND (power), 9 A5 (io), 10 A6 (io), 11 A7 (io), 12 A8 (io), 13 ~{OE} (in), 14 B8 (io), 15 B7 (io), 16 B6 (io), 17 B5 (io), 18 VCC (power), 19 VCC (power), 20 B4 (io), 21 B3 (io), 22 B2 (io), 23 B1 (io), 24 DIR (in)

## 74AC11245DW
designator U?
Octal Bus Transceiver with 3-State Outputs; ComponentAvailability: Obsolete; Published: 8-Jun-2000; LatestRevisionDate: 13-Apr-2006; LatestRevisionNote: IPC-7351 Footprint Added.; DatasheetVersion: Apr-1996; PackageVersion: Mar-2000; PackageReference: DW024; Publisher: Altium Limited; PackageDescription: 24-Pin Plastic Small Outline Integrated Circuit 1.27 mm Pitch; Code_JEDEC: MS-013; ComponentLink1Description: Manufacturer Link; ComponentLink1URL: http://www.ti.com/; ComponentLink2Description: Datasheet; ComponentLink2URL: http://www-s.ti.com/sc/ds/74ac11245.pdf
footprint DW024_N (SOIC, 24-Leads, Body 15.4x7.5mm, Pitch 1.27mm, IPC Medium Density)
footprint DW024_L (SOIC, 24-Leads, Body 15.4x7.5mm, Pitch 1.27mm, IPC High Density)
footprint DW024_M (SOIC, 24-Leads, Body 15.4x7.5mm, Pitch 1.27mm, IPC Low Density)
3D model DW024 (24-Pin Plastic Small Outline Integrated Circuit 1.27 mm Pitch)
signal-integrity model 74AC11245DW
pins: 1 A1 (io), 2 A2 (io), 3 A3 (io), 4 A4 (io), 5 GND (power), 6 GND (power), 7 GND (power), 8 GND (power), 9 A5 (io), 10 A6 (io), 11 A7 (io), 12 A8 (io), 13 ~{OE} (in), 14 B8 (io), 15 B7 (io), 16 B6 (io), 17 B5 (io), 18 VCC (power), 19 VCC (power), 20 B4 (io), 21 B3 (io), 22 B2 (io), 23 B1 (io), 24 DIR (in)

## 74AC11245NT
designator U?
Octal Bus Transceiver with 3-State Outputs; ComponentAvailability: Obsolete; Published: 8-Jun-2000; LatestRevisionDate: 04-Mar-2005; LatestRevisionNote: Stylized 3D Model Added.; DatasheetVersion: Apr-1996; PackageVersion: Oct-1994; PackageReference: NT024; Publisher: Altium Limited; PackageDescription: DIP; 24 Leads; Row Spacing 7.62 mm; Pitch 2.54 mm; Code_JEDEC: MS-001-AF; ComponentLink1Description: Manufacturer Link; ComponentLink1URL: http://www.ti.com/; ComponentLink2Description: Datasheet; ComponentLink2URL: http://www-s.ti.com/sc/ds/74ac11245.pdf
footprint NT024 (DIP; 24 Leads; Row Spacing 7.62 mm; Pitch 2.54 mm)
3D model JT024 (DIP; 24 Leads; Row Spacing 7.62 mm; Pitch 2.54 mm)
signal-integrity model 74AC11245NT
pins: 1 A1 (io), 2 A2 (io), 3 A3 (io), 4 A4 (io), 5 GND (power), 6 GND (power), 7 GND (power), 8 GND (power), 9 A5 (io), 10 A6 (io), 11 A7 (io), 12 A8 (io), 13 ~{OE} (in), 14 B8 (io), 15 B7 (io), 16 B6 (io), 17 B5 (io), 18 VCC (power), 19 VCC (power), 20 B4 (io), 21 B3 (io), 22 B2 (io), 23 B1 (io), 24 DIR (in)

## 74AC11245PWLE
designator U?
Octal Bus Transceiver with 3-State Outputs; ComponentAvailability: Obsolete; Published: 8-Jun-2000; LatestRevisionDate: 04-Mar-2005; LatestRevisionNote: Stylized 3D Model Added.; DatasheetVersion: Apr-1996; PackageVersion: Feb-1999; PackageReference: PW024; Publisher: Altium Limited; PackageDescription: Shrink Small Outline; 24 Leads; Body Width 4.4 mm; Pitch 0.65 mm; ComponentLink1Description: Manufacturer Link; ComponentLink1URL: http://www.ti.com/; ComponentLink2Description: Datasheet; ComponentLink2URL: http://www-s.ti.com/sc/ds/74ac11245.pdf
footprint PW024 (Shrink Small Outline; 24 Leads; Body Width 4.4 mm; Pitch 0.65 mm)
3D model PW024 (Shrink Small Outline; 24 Leads; Body Width 4.4 mm; Pitch 0.65 mm)
signal-integrity model 74AC11245PWLE
pins: 1 A1 (io), 2 A2 (io), 3 A3 (io), 4 A4 (io), 5 GND (power), 6 GND (power), 7 GND (power), 8 GND (power), 9 A5 (io), 10 A6 (io), 11 A7 (io), 12 A8 (io), 13 ~{OE} (in), 14 B8 (io), 15 B7 (io), 16 B6 (io), 17 B5 (io), 18 VCC (power), 19 VCC (power), 20 B4 (io), 21 B3 (io), 22 B2 (io), 23 B1 (io), 24 DIR (in)

## 74AC11620DW
designator U?
Octal Bus Transceiver with 3-State Outputs; Published: 8-Jun-2000; LatestRevisionDate: 13-Apr-2006; LatestRevisionNote: IPC-7351 Footprint Added.; DatasheetVersion: Mar-1990; PackageVersion: Mar-2000; PackageReference: DW024; Publisher: Altium Limited; PackageDescription: 24-Pin Plastic Small Outline Integrated Circuit 1.27 mm Pitch; Code_JEDEC: MS-013; ComponentLink1Description: Manufacturer Link; ComponentLink1URL: http://www.ti.com/; ComponentLink2Description: Datasheet; ComponentLink2URL: http://www-s.ti.com/sc/ds/74ac11620.pdf
footprint DW024_N (SOIC, 24-Leads, Body 15.4x7.5mm, Pitch 1.27mm, IPC Medium Density)
footprint DW024_L (SOIC, 24-Leads, Body 15.4x7.5mm, Pitch 1.27mm, IPC High Density)
footprint DW024_M (SOIC, 24-Leads, Body 15.4x7.5mm, Pitch 1.27mm, IPC Low Density)
3D model DW024 (24-Pin Plastic Small Outline Integrated Circuit 1.27 mm Pitch)
signal-integrity model 74AC11620DW
pins: 1 A1 (io), 2 A2 (io), 3 A3 (io), 4 A4 (io), 5 GND (power), 6 GND (power), 7 GND (power), 8 GND (power), 9 A5 (io), 10 A6 (io), 11 A7 (io), 12 A8 (io), 13 ~{OEBA} (in), 14 B8 (io), 15 B7 (io), 16 B6 (io), 17 B5 (io), 18 VCC (power), 19 VCC (power), 20 B4 (io), 21 B3 (io), 22 B2 (io), 23 B1 (io), 24 OEAB (in)

## 74AC11620NT
designator U?
Octal Bus Transceiver with 3-State Outputs; Published: 8-Jun-2000; LatestRevisionDate: 04-Mar-2005; LatestRevisionNote: Stylized 3D Model Added.; DatasheetVersion: Mar-1990; PackageVersion: Oct-1994; PackageReference: NT024D; Publisher: Altium Limited; PackageDescription: DIP; 24 Leads; Row Spacing 7.62 mm; Pitch 2.54 mm; Code_JEDEC: MS-001-AF; ComponentLink1Description: Manufacturer Link; ComponentLink1URL: http://www.ti.com/; ComponentLink2Description: Datasheet; ComponentLink2URL: http://www-s.ti.com/sc/ds/74ac11620.pdf
footprint NT024D (DIP; 24 Leads; Row Spacing 7.62 mm; Pitch 2.54 mm)
3D model JT024 (DIP; 24 Leads; Row Spacing 7.62 mm; Pitch 2.54 mm)
signal-integrity model 74AC11620NT
pins: 1 A1 (io), 2 A2 (io), 3 A3 (io), 4 A4 (io), 5 GND (power), 6 GND (power), 7 GND (power), 8 GND (power), 9 A5 (io), 10 A6 (io), 11 A7 (io), 12 A8 (io), 13 ~{OEBA} (in), 14 B8 (io), 15 B7 (io), 16 B6 (io), 17 B5 (io), 18 VCC (power), 19 VCC (power), 20 B4 (io), 21 B3 (io), 22 B2 (io), 23 B1 (io), 24 OEAB (in)

## 74AC11623DW
designator U?
Octal Bus Transceiver with 3-State Outputs; ComponentAvailability: Obsolete; Published: 8-Jun-2000; LatestRevisionDate: 13-Apr-2006; LatestRevisionNote: IPC-7351 Footprint Added.; DatasheetVersion: Apr-1993; PackageVersion: Mar-2000; PackageReference: DW024; Publisher: Altium Limited; PackageDescription: 24-Pin Plastic Small Outline Integrated Circuit 1.27 mm Pitch; Code_JEDEC: MS-013; ComponentLink1Description: Manufacturer Link; ComponentLink1URL: http://www.ti.com/; ComponentLink2Description: Datasheet; ComponentLink2URL: http://www-s.ti.com/sc/ds/74ac11623.pdf
footprint DW024_N (SOIC, 24-Leads, Body 15.4x7.5mm, Pitch 1.27mm, IPC Medium Density)
footprint DW024_L (SOIC, 24-Leads, Body 15.4x7.5mm, Pitch 1.27mm, IPC High Density)
footprint DW024_M (SOIC, 24-Leads, Body 15.4x7.5mm, Pitch 1.27mm, IPC Low Density)
3D model DW024 (24-Pin Plastic Small Outline Integrated Circuit 1.27 mm Pitch)
signal-integrity model 74AC11623DW
pins: 1 A1 (io), 2 A2 (io), 3 A3 (io), 4 A4 (io), 5 GND (power), 6 GND (power), 7 GND (power), 8 GND (power), 9 A5 (io), 10 A6 (io), 11 A7 (io), 12 A8 (io), 13 ~{OEBA} (in), 14 B8 (io), 15 B7 (io), 16 B6 (io), 17 B5 (io), 18 VCC (power), 19 VCC (power), 20 B4 (io), 21 B3 (io), 22 B2 (io), 23 B1 (io), 24 OEAB (in)

## 74AC11623NT
designator U?
Octal Bus Transceiver with 3-State Outputs; ComponentAvailability: Obsolete; Published: 8-Jun-2000; LatestRevisionDate: 04-Mar-2005; LatestRevisionNote: Stylized 3D Model Added.; DatasheetVersion: Apr-1993; PackageVersion: Oct-1994; PackageReference: NT024; Publisher: Altium Limited; PackageDescription: DIP; 24 Leads; Row Spacing 7.62 mm; Pitch 2.54 mm; Code_JEDEC: MS-001-AF; ComponentLink1Description: Manufacturer Link; ComponentLink1URL: http://www.ti.com/; ComponentLink2Description: Datasheet; ComponentLink2URL: http://www-s.ti.com/sc/ds/74ac11623.pdf
footprint NT024 (DIP; 24 Leads; Row Spacing 7.62 mm; Pitch 2.54 mm)
3D model JT024 (DIP; 24 Leads; Row Spacing 7.62 mm; Pitch 2.54 mm)
signal-integrity model 74AC11623NT
pins: 1 A1 (io), 2 A2 (io), 3 A3 (io), 4 A4 (io), 5 GND (power), 6 GND (power), 7 GND (power), 8 GND (power), 9 A5 (io), 10 A6 (io), 11 A7 (io), 12 A8 (io), 13 ~{OEBA} (in), 14 B8 (io), 15 B7 (io), 16 B6 (io), 17 B5 (io), 18 VCC (power), 19 VCC (power), 20 B4 (io), 21 B3 (io), 22 B2 (io), 23 B1 (io), 24 OEAB (in)

## 74AC11640DW
designator U?
Octal Bus Transceiver with 3-State Outputs; Published: 8-Jun-2000; LatestRevisionDate: 13-Apr-2006; LatestRevisionNote: IPC-7351 Footprint Added.; DatasheetVersion: Mar-1990; PackageVersion: Mar-2000; PackageReference: DW024; Publisher: Altium Limited; PackageDescription: 24-Pin Plastic Small Outline Integrated Circuit 1.27 mm Pitch; Code_JEDEC: MS-013; ComponentLink1Description: Manufacturer Link; ComponentLink1URL: http://www.ti.com/; ComponentLink2Description: Datasheet; ComponentLink2URL: http://www-s.ti.com/sc/ds/74ac11640.pdf; ComponentLink3Description: URL Link1; ComponentLink3URL: http://focus.ti.com/docs/prod/folders/print/74ac11640.html
footprint DW024_N (SOIC, 24-Leads, Body 15.4x7.5mm, Pitch 1.27mm, IPC Medium Density)
footprint DW024_L (SOIC, 24-Leads, Body 15.4x7.5mm, Pitch 1.27mm, IPC High Density)
footprint DW024_M (SOIC, 24-Leads, Body 15.4x7.5mm, Pitch 1.27mm, IPC Low Density)
3D model DW024 (24-Pin Plastic Small Outline Integrated Circuit 1.27 mm Pitch)
signal-integrity model 74AC11640DW
pins: 1 A1 (io), 2 A2 (io), 3 A3 (io), 4 A4 (io), 5 GND (power), 6 GND (power), 7 GND (power), 8 GND (power), 9 A5 (io), 10 A6 (io), 11 A7 (io), 12 A8 (io), 13 ~{OE} (in), 14 B8 (io), 15 B7 (io), 16 B6 (io), 17 B5 (io), 18 VCC (power), 19 VCC (power), 20 B4 (io), 21 B3 (io), 22 B2 (io), 23 B1 (io), 24 DIR (in)

## 74AC11640NT
designator U?
Octal Bus Transceiver with 3-State Outputs; Published: 8-Jun-2000; LatestRevisionDate: 04-Mar-2005; LatestRevisionNote: Stylized 3D Model Added.; DatasheetVersion: Mar-1990; PackageVersion: Oct-1994; PackageReference: NT024D; Publisher: Altium Limited; PackageDescription: DIP; 24 Leads; Row Spacing 7.62 mm; Pitch 2.54 mm; Code_JEDEC: MS-001-AF; ComponentLink1Description: Manufacturer Link; ComponentLink1URL: http://www.ti.com/; ComponentLink2Description: Datasheet; ComponentLink2URL: http://www-s.ti.com/sc/ds/74ac11640.pdf; ComponentLink3Description: URL Link1; ComponentLink3URL: http://focus.ti.com/docs/prod/folders/print/74ac11640.html
footprint NT024D (DIP; 24 Leads; Row Spacing 7.62 mm; Pitch 2.54 mm)
3D model JT024 (DIP; 24 Leads; Row Spacing 7.62 mm; Pitch 2.54 mm)
signal-integrity model 74AC11640NT
pins: 1 A1 (io), 2 A2 (io), 3 A3 (io), 4 A4 (io), 5 GND (power), 6 GND (power), 7 GND (power), 8 GND (power), 9 A5 (io), 10 A6 (io), 11 A7 (io), 12 A8 (io), 13 ~{OE} (in), 14 B8 (io), 15 B7 (io), 16 B6 (io), 17 B5 (io), 18 VCC (power), 19 VCC (power), 20 B4 (io), 21 B3 (io), 22 B2 (io), 23 B1 (io), 24 DIR (in)

## 74AC11643DW
designator U?
Octal Bus Transceiver with 3-State Outputs; Published: 8-Jun-2000; LatestRevisionDate: 13-Apr-2006; LatestRevisionNote: IPC-7351 Footprint Added.; DatasheetVersion: Apr-1993; PackageVersion: Mar-2000; PackageReference: DW024; Publisher: Altium Limited; PackageDescription: 24-Pin Plastic Small Outline Integrated Circuit 1.27 mm Pitch; Code_JEDEC: MS-013; ComponentLink1Description: Manufacturer Link; ComponentLink1URL: http://www.ti.com/; ComponentLink2Description: Datasheet; ComponentLink2URL: http://www-s.ti.com/sc/ds/74ac11643.pdf
footprint DW024_N (SOIC, 24-Leads, Body 15.4x7.5mm, Pitch 1.27mm, IPC Medium Density)
footprint DW024_L (SOIC, 24-Leads, Body 15.4x7.5mm, Pitch 1.27mm, IPC High Density)
footprint DW024_M (SOIC, 24-Leads, Body 15.4x7.5mm, Pitch 1.27mm, IPC Low Density)
3D model DW024 (24-Pin Plastic Small Outline Integrated Circuit 1.27 mm Pitch)
signal-integrity model 74AC11643DW
pins: 1 A1 (io), 2 A2 (io), 3 A3 (io), 4 A4 (io), 5 GND (power), 6 GND (power), 7 GND (power), 8 GND (power), 9 A5 (io), 10 A6 (io), 11 A7 (io), 12 A8 (io), 13 ~{OE} (in), 14 B8 (io), 15 B7 (io), 16 B6 (io), 17 B5 (io), 18 VCC (power), 19 VCC (power), 20 B4 (io), 21 B3 (io), 22 B2 (io), 23 B1 (io), 24 DIR (in)

## 74AC11643NT
designator U?
Octal Bus Transceiver with 3-State Outputs; Published: 8-Jun-2000; LatestRevisionDate: 04-Mar-2005; LatestRevisionNote: Stylized 3D Model Added.; DatasheetVersion: Apr-1993; PackageVersion: Oct-1994; PackageReference: NT024; Publisher: Altium Limited; PackageDescription: DIP; 24 Leads; Row Spacing 7.62 mm; Pitch 2.54 mm; Code_JEDEC: MS-001-AF; ComponentLink1Description: Manufacturer Link; ComponentLink1URL: http://www.ti.com/; ComponentLink2Description: Datasheet; ComponentLink2URL: http://www-s.ti.com/sc/ds/74ac11643.pdf
footprint NT024 (DIP; 24 Leads; Row Spacing 7.62 mm; Pitch 2.54 mm)
3D model JT024 (DIP; 24 Leads; Row Spacing 7.62 mm; Pitch 2.54 mm)
signal-integrity model 74AC11643NT
pins: 1 A1 (io), 2 A2 (io), 3 A3 (io), 4 A4 (io), 5 GND (power), 6 GND (power), 7 GND (power), 8 GND (power), 9 A5 (io), 10 A6 (io), 11 A7 (io), 12 A8 (io), 13 ~{OE} (in), 14 B8 (io), 15 B7 (io), 16 B6 (io), 17 B5 (io), 18 VCC (power), 19 VCC (power), 20 B4 (io), 21 B3 (io), 22 B2 (io), 23 B1 (io), 24 DIR (in)